# EAGLE library part TX24-80R-LT-H1E (library con-jae)
CONN RCPT 1.27MM 80POS GOLD R/A
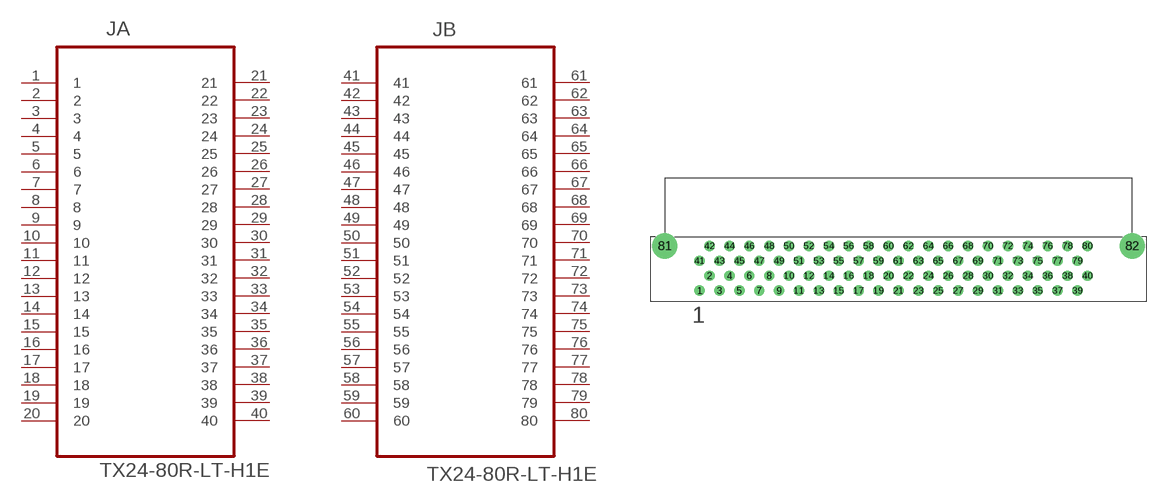
[diagram p15: symbol with the pads of JAE_TX24-80R-LT-H1E; footprint JAE_TX24-80R-LT-H1E]

Designator prefix J; gates A=TX24-80R-LT-H1E_A B=TX24-80R-LT-H1E_B

## TX24-80R-LT-H1E (DATASHEETLINK: http://www.jae.com/z-en/pdf_download_exec.cfm?param=SJ038252.pdf; MPN: TX24-80R-LT-H1E; OC_FARNELL: 1519637; OC_NEWARK: 74M4882; PACKAGE: CONN-80POS; ROHS: Yes; SUPPLIER: JAE)  [JAE_TX24-80R-LT-H1E]
1  A:1  pas
2  A:2  pas
3  A:3  pas
4  A:4  pas
5  A:5  pas
6  A:6  pas
7  A:7  pas
8  A:8  pas
9  A:9  pas
10  A:10  pas
11  A:11  pas
12  A:12  pas
13  A:13  pas
14  A:14  pas
15  A:15  pas
16  A:16  pas
17  A:17  pas
18  A:18  pas
19  A:19  pas
20  A:20  pas
21  A:21  pas
22  A:22  pas
23  A:23  pas
24  A:24  pas
25  A:25  pas
26  A:26  pas
27  A:27  pas
28  A:28  pas
29  A:29  pas
30  A:30  pas
31  A:31  pas
32  A:32  pas
33  A:33  pas
34  A:34  pas
35  A:35  pas
36  A:36  pas
37  A:37  pas
38  A:38  pas
39  A:39  pas
40  A:40  pas
41  B:41  pas
42  B:42  pas
43  B:43  pas
44  B:44  pas
45  B:45  pas
46  B:46  pas
47  B:47  pas
48  B:48  pas
49  B:49  pas
50  B:50  pas
51  B:51  pas
52  B:52  pas
53  B:53  pas
54  B:54  pas
55  B:55  pas
56  B:56  pas
57  B:57  pas
58  B:58  pas
59  B:59  pas
60  B:60  pas
61  B:61  pas
62  B:62  pas
63  B:63  pas
64  B:64  pas
65  B:65  pas
66  B:66  pas
67  B:67  pas
68  B:68  pas
69  B:69  pas
70  B:70  pas
71  B:71  pas
72  B:72  pas
73  B:73  pas
74  B:74  pas
75  B:75  pas
76  B:76  pas
77  B:77  pas
78  B:78  pas
79  B:79  pas
80  B:80  pas

## Footprint JAE_TX24-80R-LT-H1E (pad centres in mm)
drill 0.813: 1 -25.4,-6.858; 2 -24.13,-4.953; 3 -22.86,-6.858; 4 -21.59,-4.953; 5 -20.32,-6.858; 6 -19.05,-4.953; 7 -17.78,-6.858; 8 -16.51,-4.953; 9 -15.24,-6.858; 10 -13.97,-4.953; 11 -12.7,-6.858; 12 -11.43,-4.953; 13 -10.16,-6.858; 14 -8.89,-4.953; 15 -7.62,-6.858; 16 -6.35,-4.953; 17 -5.08,-6.858; 18 -3.81,-4.953; 19 -2.54,-6.858; 20 -1.27,-4.953; 21 0,-6.858; 22 1.27,-4.953; 23 2.54,-6.858; 24 3.81,-4.953; 25 5.08,-6.858; 26 6.35,-4.953; 27 7.62,-6.858; 28 8.89,-4.953; 29 10.16,-6.858; 30 11.43,-4.953; 31 12.7,-6.858; 32 13.97,-4.953; 33 15.24,-6.858; 34 16.51,-4.953; 35 17.78,-6.858; 36 19.05,-4.953; 37 20.32,-6.858; 38 21.59,-4.953; 39 22.86,-6.858; 40 24.13,-4.953; 41 -25.4,-3.048; 42 -24.13,-1.143; 43 -22.86,-3.048; 44 -21.59,-1.143; 45 -20.32,-3.048; 46 -19.05,-1.143; 47 -17.78,-3.048; 48 -16.51,-1.143; 49 -15.24,-3.048; 50 -13.97,-1.143; 51 -12.7,-3.048; 52 -11.43,-1.143; 53 -10.16,-3.048; 54 -8.89,-1.143; 55 -7.62,-3.048; 56 -6.35,-1.143; 57 -5.08,-3.048; 58 -3.81,-1.143; 59 -2.54,-3.048; 60 -1.27,-1.143; 61 0,-3.048; 62 1.27,-1.143; 63 2.54,-3.048; 64 3.81,-1.143; 65 5.08,-3.048; 66 6.35,-1.143; 67 7.62,-3.048; 68 8.89,-1.143; 69 10.16,-3.048; 70 11.43,-1.143; 71 12.7,-3.048; 72 13.97,-1.143; 73 15.24,-3.048; 74 16.51,-1.143; 75 17.78,-3.048; 76 19.05,-1.143; 77 20.32,-3.048; 78 21.59,-1.143; 79 22.86,-3.048; 80 24.13,-1.143
drill 2.21: 81 -29.845,-1.143; 82 29.845,-1.143